# Altium footprint library Module.PcbLib: 8 footprints
Each footprint in its own frame and in the unit in brackets; x right, y up, seen from the top. Pads: shape width x height; smd on the part's side, far side on the other; paste and mask are expansions set on the pad; w line width, h text height; cw(c..) or ccw(c..) is an arc to the next point about the centre after c.
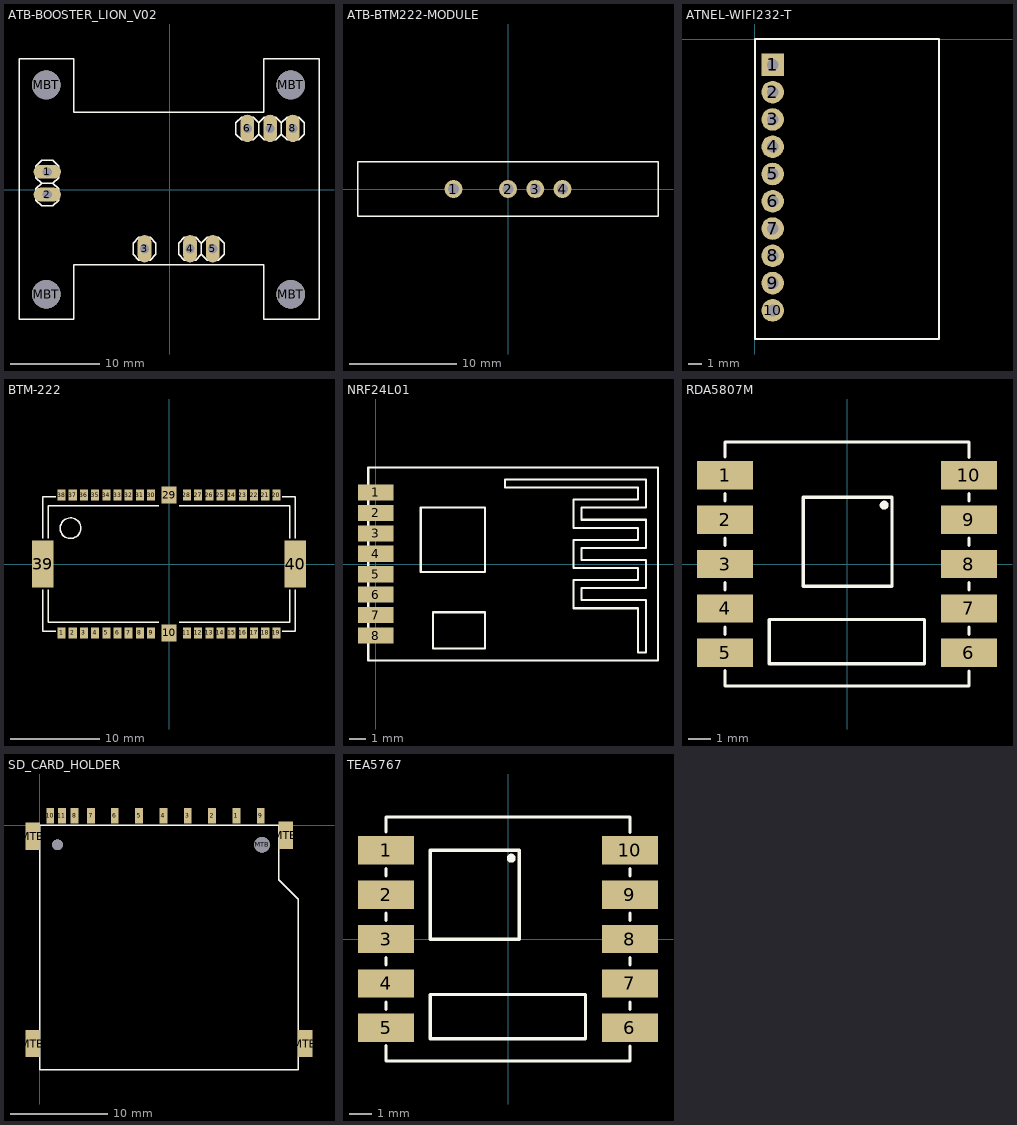
[diagram p0: the footprints below, top view; thin cyan lines are the x and y axes]

## ATB-BOOSTER_LION_V02 [mil]
pads (12):
  oval 120x60 hole 40: 1(-538,78) 2(-538,-22)
  oval 60x120 hole 40: 3(-110,-260) 4(90,-260) 5(190,-260) 6(342,269) 7(442,269) 8(542,269)
  round 126 hole 126: MBT(-542,-460) MBT(-542,460) MBT(533,-460) MBT(533,460)
Top Overlay:
  lines w6: -563,28 -588,3 -588,-47 -563,-72 -513,-72 -488,-47 -488,3 -513,28 ; -563,28 -588,53 -588,103 -563,128 -513,128 -488,103 -488,53 -513,28 ; -563,28 -513,28 ; 140,-285 115,-310 65,-310 40,-285 40,-235 65,-210 115,-210 140,-235 ; 140,-285 140,-235 ; 140,-285 165,-310 215,-310 240,-285 240,-235 215,-210 165,-210 140,-235 ; 392,244 367,219 317,219 292,244 292,294 317,319 367,319 392,294 ; 392,244 392,294 ; 392,244 417,219 467,219 492,244 ; 392,294 417,319 467,319 492,294 ; 492,244 492,294 ; 492,244 517,219 567,219 592,244 592,294 567,319 517,319 492,294 ; -662,-570 -662,575 -422,575 -422,340 413,340 413,575 657,575 657,-570 413,-570 413,-330 -422,-330 -422,-570 -662,-570 ; -160,-285 -135,-310 -85,-310 -60,-285 -60,-235 -85,-210 -135,-210 -160,-235 -160,-285
Mechanical 16:
  circle w18: c-542,-460 r30
  circle w18: c533,-460 r30
  circle w18: c533,460 r30
  circle w18: c-542,460 r30

## ATB-BTM222-MODULE [mil]
pads (4):
  round 66 hole 40: 1(-200,0) 2(0,0) 3(100,0) 4(200,0)
Top Overlay:
  lines w5: -550,-100 550,-100 550,100 -550,100 -550,-100

## ATNEL-WIFI232-T [mil]
height 354.33
pads (10):
  rect 65x65 hole 34: 1(51.18,-74.8)
  round 65 hole 34: 2(51.18,-153.54) 3(51.18,-232.28) 4(51.18,-311.02) 5(51.18,-389.76) 6(51.18,-468.5) 7(51.18,-547.24) 8(51.18,-625.98) 9(51.18,-704.72) 10(51.18,-783.46)
Top Overlay:
  lines w6: 0,-866.14 531.5,-866.14 531.5,0 0,0 0,-866.14
3D body: height 307.09, standoff 244.09, extent 19.72,-814.95 82.68,-751.97
3D body: height 307.09, standoff 244.09, extent 19.72,-736.21 82.69,-673.23
3D body: height 307.09, standoff 244.09, extent 19.72,-657.47 82.69,-594.49
3D body: height 307.09, standoff 244.09, extent 19.72,-578.73 82.69,-515.75
3D body: height 307.09, standoff 244.09, extent 19.72,-499.99 82.69,-437.01
3D body: height 307.09, standoff 244.09, extent 19.72,-421.25 82.69,-358.27
3D body: height 307.09, standoff 244.09, extent 19.72,-342.51 82.68,-279.53
3D body: height 307.09, standoff 244.09, extent 19.72,-263.77 82.68,-200.79
3D body: height 307.09, standoff 244.09, extent 19.72,-185.02 82.69,-122.05
3D body: height 307.09, standoff 244.09, extent 19.72,-106.28 82.69,-43.31
3D body: height 287.4, standoff 275.59, extent 448.82,-257.87 488.2,-238.18
3D body: height 287.4, standoff 275.59, extent 122.05,-206.69 161.42,-187
3D body: height 287.4, standoff 275.59, extent 431.1,-149.61 450.79,-110.23
3D body: height 287.4, standoff 275.59, extent 279.52,-33.47 318.89,-13.78
3D body: height 287.4, standoff 275.59, extent 474.4,-397.63 494.09,-358.26
3D body: height 287.4, standoff 275.59, extent 413.39,-403.53 452.77,-383.85
3D body: height 287.4, standoff 275.59, extent 374.02,-446.85 413.39,-427.16
3D body: height 287.4, standoff 275.59, extent 462.6,-507.88 482.29,-468.5
3D body: height 287.4, standoff 275.59, extent 435.04,-515.75 454.72,-476.38
3D body: height 287.4, standoff 275.59, extent 358.27,-616.14 397.64,-596.46
3D body: height 287.4, standoff 275.59, extent 362.2,-647.64 401.57,-627.95
3D body: height 291.34, standoff 259.84, extent 429.13,-47.25 492.12,-15.75
3D body: height 291.34, standoff 259.84, extent 118.1,-94.48 149.6,-31.49
3D body: height 291.34, standoff 259.84, extent 421.26,-208.66 484.25,-177.16
3D body: height 291.34, standoff 259.84, extent 181.11,-507.88 212.6,-444.88
3D body: height 291.34, standoff 259.84, extent 173.23,-614.17 204.73,-551.18
3D body: height 285.43, standoff 265.75, extent 151.58,-377.95 171.27,-338.58
3D body: height 285.43, standoff 265.75, extent 234.25,-484.25 253.94,-444.88
3D body: height 285.43, standoff 265.75, extent 244.09,-683.07 283.46,-663.38
3D body: height 285.43, standoff 265.75, extent 238.19,-641.73 257.87,-602.36
3D body: height 285.43, standoff 265.75, extent 340.54,-535.43 360.23,-496.06
3D body: height 344.49, standoff 275.59, extent 187.73,-344.28 380.65,-108.07
3D body: height 324.8, standoff 275.2, extent 381.89,-812.99 503.94,-694.88
3D body: height 275.59, standoff 236.22, extent 0,-866.14 531.5,0
3D body: height 346.46, standoff 0, extent 41.34,-84.64 61.03,-64.96
3D body: height 236.22, standoff 157.48, extent 11.81,-114.17 90.55,-35.43
3D body: height 346.46, standoff 0, extent 41.34,-163.38 61.03,-143.7
3D body: height 236.22, standoff 157.48, extent 11.81,-192.91 90.55,-114.17
3D body: height 346.46, standoff 0, extent 41.34,-242.12 61.03,-222.44
3D body: height 236.22, standoff 157.48, extent 11.81,-271.65 90.55,-192.91
3D body: height 346.46, standoff 0, extent 41.34,-320.86 61.03,-301.18
3D body: height 236.22, standoff 157.48, extent 11.81,-350.39 90.55,-271.65
3D body: height 346.46, standoff 0, extent 41.34,-399.6 61.03,-379.92
3D body: height 236.22, standoff 157.48, extent 11.81,-429.13 90.55,-350.39
3D body: height 346.46, standoff 0, extent 41.34,-478.34 61.03,-458.66
3D body: height 236.22, standoff 157.48, extent 11.81,-507.87 90.55,-429.13
3D body: height 346.46, standoff 0, extent 41.34,-557.08 61.03,-537.4
3D body: height 236.22, standoff 157.48, extent 11.81,-586.61 90.55,-507.87
3D body: height 346.46, standoff 0, extent 41.34,-635.82 61.03,-616.14
3D body: height 236.22, standoff 157.48, extent 11.81,-665.35 90.55,-586.61
3D body: height 346.46, standoff 0, extent 41.34,-714.56 61.03,-694.88
3D body: height 236.22, standoff 157.48, extent 11.81,-744.09 90.55,-665.35
3D body: height 346.46, standoff 0, extent 41.34,-793.3 61.03,-773.62
3D body: height 236.22, standoff 157.48, extent 11.81,-822.83 90.55,-744.09

## BTM-222 [mm]
height 3
pads (40):
  rect 0.9x1.2 smd: 1(-12,-7.7) 2(-10.75,-7.7) 3(-9.5,-7.7) 4(-8.25,-7.7) 5(-7,-7.7) 6(-5.75,-7.7) 7(-4.5,-7.7) 8(-3.25,-7.7) 9(-2,-7.7) 11(2,-7.7) 12(3.25,-7.7) 13(4.5,-7.7) 14(5.75,-7.7) 15(7,-7.7) 16(8.25,-7.7) 17(9.5,-7.7) 18(10.75,-7.7) 19(12,-7.7) 20(12,7.7) 21(10.75,7.7) 22(9.5,7.7) 23(8.25,7.7) 24(7,7.7) 25(5.75,7.7) 26(4.5,7.7) 27(3.25,7.7) 28(2,7.7) 30(-2,7.7) 31(-3.25,7.7) 32(-4.5,7.7) 33(-5.75,7.7) 34(-7,7.7) 35(-8.25,7.7) 36(-9.5,7.7) 37(-10.75,7.7) 38(-12,7.7)
  rect 1.7x1.9 smd: 10(0,-7.7) 29(0,7.7)
  rect 2.4x5.3 smd: 39(-14.1,0) 40(14.1,0)
Top Overlay:
  circle w0.152: c-11,4 r1.15
  lines w0.152: -14.1,-2.875 -14.1,-7.5 -12.625,-7.5 ; -14.1,2.875 -14.1,7.5 -12.625,7.5 ; -13.5,-2.875 -13.5,-6.5 -1.125,-6.5 ; -13.5,2.875 -13.5,6.5 -1.125,6.5 ; 1.125,-6.5 13.5,-6.5 13.5,-2.875 ; 1.125,6.5 13.5,6.5 13.5,2.875 ; 12.625,-7.5 14.1,-7.5 14.1,-2.875 ; 12.625,7.5 14.1,7.5 14.1,2.875
3D body: height 2.85, standoff 0, extent -14.15,-7.55 14.15,7.55

## NRF24L01 [mm]
height 1.85
pads (8):
  rect 2.2x1 smd: 1(0,4.445) 2(0,3.175) 3(0,1.905) 4(0,0.635) 5(0,-0.635) 6(0,-1.905) 7(0,-3.175) 8(0,-4.445)
Top Overlay:
  lines w0.127: 16.3,1 16.8,1 ; 16.3,-0.25 12.3,-0.25 12.3,1.5 16.3,1.5 16.3,2.25 ; 16.3,-0.25 16.3,-0.25 ; 16.3,-0.25 16.3,-1 12.3,-1 12.3,-2.75 16.3,-2.75 16.3,-5.5 16.8,-5.5 16.8,-2.25 12.8,-2.25 12.8,-1.5 16.8,-1.5 16.8,0.25 ; 16.3,2.25 12.3,2.25 12.3,4 16.3,4 16.3,4.75 8.05,4.75 8.05,5.25 16.8,5.25 16.8,3.5 12.8,3.5 12.8,2.75 16.8,2.75 ; 16.3,2.25 16.3,2.25 ; 16.8,0.25 12.8,0.25 12.8,1 16.8,1 ; 16.8,0.25 16.8,0.25 ; 16.8,1 16.8,2.75 ; 16.8,2.75 16.8,2.75 ; 2.8,-0.5 2.8,3.5 6.8,3.5 6.8,-0.5 2.8,-0.5 ; 3.55,-5.25 3.55,-3 6.8,-3 6.8,-5.25 3.55,-5.25
  lines w0.152: -0.45,-6 -0.45,6 17.55,6 17.55,-6 -0.45,-6
3D body: height 1, standoff 0.85, extent 3.551,-5.249 6.799,-3.001
3D body: height 1, standoff 0.85, extent 2.801,-0.499 6.799,3.499
3D body: height 1, standoff 0, extent -0.526,-6.076 17.626,6.076
3D body: height 1.1, standoff 1, extent 8.051,-5.499 16.799,5.249

## RDA5807M [mm]
pads (10):
  rect 2.54x1.27 smd: 1(-5.506,4.007) 2(-5.506,2) 3(-5.506,-0.007) 4(-5.506,-2.007) 5(-5.506,-4.007) 6(5.506,-4.007) 7(5.506,-2.007) 8(5.506,-0.007) 9(5.506,2) 10(5.506,4.007)
Top Overlay:
  circle w0.152: c1.678,2.658 r0.127
  lines w0.152: -5.512,-4.826 -5.512,-5.512 5.512,-5.512 5.512,-4.851 ; -5.512,-3.175 -5.512,-2.845 ; -5.512,-1.168 -5.512,-0.838 ; -5.512,0.838 -5.512,1.168 ; -5.512,2.845 -5.512,3.175 ; -5.512,4.851 -5.512,5.512 5.512,5.512 5.512,4.826 ; 1.678,2.607 1.678,2.658 ; 5.512,-3.175 5.512,-2.845 ; 5.512,-1.168 5.512,-0.838 ; 5.512,0.838 5.512,1.168 ; 5.512,2.845 5.512,3.175 ; -3.506,-4.507 -3.506,-2.507 3.499,-2.507 3.499,-4.507 -3.506,-4.507 ; -1.974,-1 2.034,-1 2.034,3.013 -1.974,3.013 -1.974,-1
3D body: height 1, standoff 0, extent -5.588,-5.588 5.588,5.588
3D body: height 3, standoff 1, extent -3.505,-4.506 3.499,-2.507
3D body: height 2, standoff 1, extent -1.973,-0.999 2.034,3.013

## SD_CARD_HOLDER [mm]
pads (17):
  rect 0.8x1.6 smd: 1(20.175,0.975) 2(17.675,0.975) 3(15.175,0.975) 4(12.675,0.975) 5(10.175,0.975) 6(7.675,0.975) 7(5.25,0.975) 8(3.55,0.975) 9(22.675,0.975) 10(1.05,0.975) 11(2.25,0.975)
  rect 1.5x2.8 smd: MTB(-0.75,-22.4) MTB(-0.75,-1.1) MTB(25.25,-1) MTB(27.25,-22.4)
  round 1.1 hole 1.1: MTB(1.8,-2)
  round 1.6 hole 1.6: MTB(22.8,-2)
Top Overlay:
  lines w0.152: 0,-25.1 26.5,-25.1 26.5,-7.577 24.5,-5.577 24.5,-3.556 24.5,0 0,0 0,-25.1
3D body: height 3.3, standoff -0.6, extent -0.725,-25 27.25,1.25

## TEA5767 [mm]
pads (10):
  rect 2.54x1.27 smd: 1(-5.506,4.007) 2(-5.506,2) 3(-5.506,-0.007) 4(-5.506,-2.007) 5(-5.506,-4.007) 6(5.506,-4.007) 7(5.506,-2.007) 8(5.506,-0.007) 9(5.506,2) 10(5.506,4.007)
Top Overlay:
  circle w0.152: c0.146,3.651 r0.127
  lines w0.152: -5.512,-4.826 -5.512,-5.512 5.512,-5.512 5.512,-4.851 ; -5.512,-3.175 -5.512,-2.845 ; -5.512,-1.168 -5.512,-0.838 ; -5.512,0.838 -5.512,1.168 ; -5.512,2.845 -5.512,3.175 ; -5.512,4.851 -5.512,5.512 5.512,5.512 5.512,4.826 ; 0.146,3.6 0.146,3.651 ; 5.512,-3.175 5.512,-2.845 ; 5.512,-1.168 5.512,-0.838 ; 5.512,0.838 5.512,1.168 ; 5.512,2.845 5.512,3.175 ; -3.506,-4.507 3.499,-4.507 3.499,-2.507 -3.506,-2.507 -3.506,-4.507 ; -3.506,-0.007 -3.506,4.007 0.502,4.007 0.502,-0.007 -3.506,-0.007